# Altium schematic symbol library 623 3xx 210 21.SchLib: 7 symbols
Pins are listed as number, name and electrical type; pins without a type are passive.

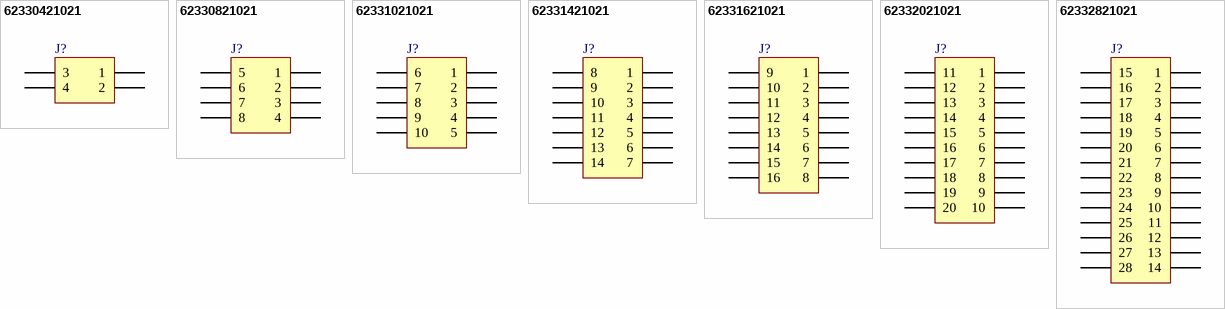
[diagram p0: symbols 62330421021 to 62332821021]

## 62330421021
designator J?, comment 04p  (value not drawn)
WR-PHD 1.27 mm Dual SMT Socket Header, 04p; PartNumber: 62330421021; PublishedDate: July 2016; Publisher: Wurth Elektronik; ComponentLink1Description: Manufacturer; ComponentLink1URL: http://www.we-online.de; ComponentLink2Description: Datasheet; ComponentLink2URL: http://katalog.we-online.de/em/datasheet/6233xx21021.pdf; PinNumber: 04p
footprint 62330421021
pins: 1, 2, 3, 4

## 62330821021
designator J?, comment 08p  (value not drawn)
WR-PHD 1.27 mm Dual SMT Socket Header, 08p; PartNumber: 62330821021; PublishedDate: July 2016; Publisher: Wurth Elektronik; ComponentLink1Description: Manufacturer; ComponentLink1URL: http://www.we-online.de; ComponentLink2Description: Datasheet; ComponentLink2URL: http://katalog.we-online.de/em/datasheet/6233xx21021.pdf; PinNumber: 08p
footprint 62330821021
pins: 1, 2, 3, 4, 5, 6, 7, 8

## 62331021021
designator J?, comment 10p  (value not drawn)
WR-PHD 1.27 mm Dual SMT Socket Header, 10p; PartNumber: 62331021021; PublishedDate: July 2016; Publisher: Wurth Elektronik; ComponentLink1Description: Manufacturer; ComponentLink1URL: http://www.we-online.de; ComponentLink2Description: Datasheet; ComponentLink2URL: http://katalog.we-online.de/em/datasheet/6233xx21021.pdf; PinNumber: 10p
footprint 62331021021
pins: 1, 2, 3, 4, 5, 6, 7, 8, 9, 10

## 62331421021
designator J?, comment 14p  (value not drawn)
WR-PHD 1.27 mm Dual SMT Socket Header, 14p; PartNumber: 62331421021; PublishedDate: July 2016; Publisher: Wurth Elektronik; ComponentLink1Description: Manufacturer; ComponentLink1URL: http://www.we-online.de; ComponentLink2Description: Datasheet; ComponentLink2URL: http://katalog.we-online.de/em/datasheet/6233xx21021.pdf; PinNumber: 14p
footprint 62331421021
pins: 1, 2, 3, 4, 5, 6, 7, 8, 9, 10, 11, 12, 13, 14

## 62331621021
designator J?, comment 16p  (value not drawn)
WR-PHD 1.27 mm Dual SMT Socket Header, 16p; PartNumber: 62331621021; PublishedDate: July 2016; Publisher: Wurth Elektronik; ComponentLink1Description: Manufacturer; ComponentLink1URL: http://www.we-online.de; ComponentLink2Description: Datasheet; ComponentLink2URL: http://katalog.we-online.de/em/datasheet/6233xx21021.pdf; PinNumber: 16p
footprint 62331621021
pins: 1, 2, 3, 4, 5, 6, 7, 8, 9, 10, 11, 12, 13, 14, 15, 16

## 62332021021
designator J?, comment 20p  (value not drawn)
WR-PHD 1.27 mm Dual SMT Socket Header, 20p; PartNumber: 62332021021; PublishedDate: July 2016; Publisher: Wurth Elektronik; ComponentLink1Description: Manufacturer; ComponentLink1URL: http://www.we-online.de; ComponentLink2Description: Datasheet; ComponentLink2URL: http://katalog.we-online.de/em/datasheet/6233xx21021.pdf; PinNumber: 20p
footprint 62332021021
pins: 1, 2, 3, 4, 5, 6, 7, 8, 9, 10, 11, 12, 13, 14, 15, 16, 17, 18, 19, 20

## 62332821021
designator J?, comment 28p  (value not drawn)
WR-PHD 1.27 mm Dual SMT Socket Header, 28p; PartNumber: 62332821021; PublishedDate: July 2016; Publisher: Wurth Elektronik; ComponentLink1Description: Manufacturer; ComponentLink1URL: http://www.we-online.de; ComponentLink2Description: Datasheet; ComponentLink2URL: http://katalog.we-online.de/em/datasheet/6233xx21021.pdf; PinNumber: 28p
footprint 62332821021
pins: 1, 2, 3, 4, 5, 6, 7, 8, 9, 10, 11, 12, 13, 14, 15, 16, 17, 18, 19, 20, 21, 22, 23, 24, 25, 26, 27, 28